# Altium footprint library Capacitors_TH.PcbLib: 79 footprints (part 3 of 5)
Each footprint in its own frame and in the unit in brackets; x right, y up, seen from the top. Pads: shape width x height; smd on the part's side, far side on the other; paste and mask are expansions set on the pad; w line width, h text height; cw(c..) or ccw(c..) is an arc to the next point about the centre after c.
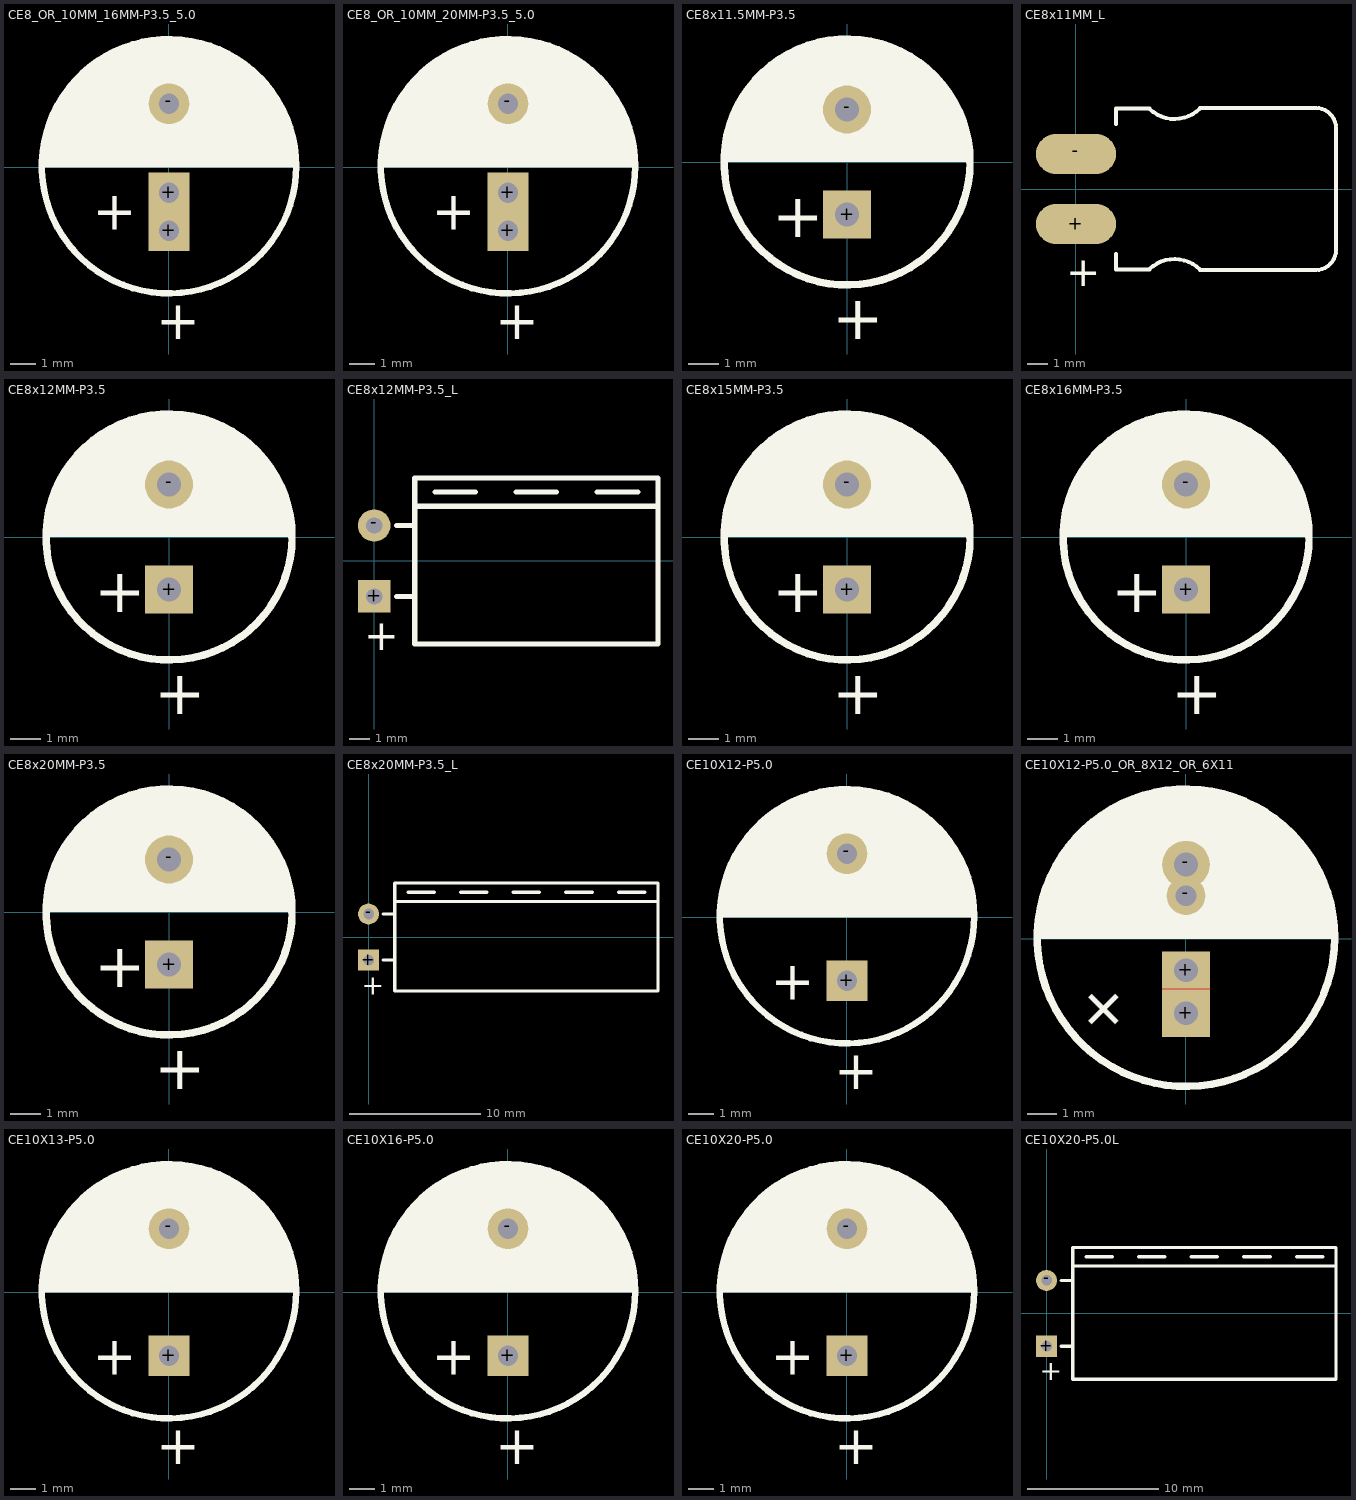
[diagram p2: the footprints below, top view; thin cyan lines are the x and y axes]

## CE8_OR_10MM_16MM-P3.5_5.0 [mm] "Radial aluminium capacitor"
height 16
pads (3):
  rect 1.6x1.6 hole 0.8: +(0,-2.5) +(0,-1)
  round 1.6 hole 0.8: -(0,2.5)
Top Overlay:
  circle w0.25: c0,0.04 r5
  region: -4.999,0 4.999,0 5,-0.001 5,0.327 4.915,0.976 4.745,1.609 4.494,2.215 4.167,2.783 3.768,3.303 3.304,3.766 2.784,4.165 2.217,4.493 1.611,4.744 0.978,4.913 0.329,4.999 -0.327,4.999 -0.977,4.914 -1.61,4.744 -2.215,4.493 -2.783,4.166 -3.303,3.767 -3.766,3.303 -4.165,2.784 -4.493,2.216 -4.744,1.611 -4.914,0.977 -4.999,0.328
  text "+" at -3,-2.45 h1.5
  text "+" at -0.5,-6.75 h1.5
3D body "Aluminum_electrolytic_capacitor_radial_D10_H16_PinD0.6_Pitch5_nominal_orange.step": height 16, standoff -3, extent -5,-5 5,5

## CE8_OR_10MM_20MM-P3.5_5.0 [mm] "Radial aluminium capacitor"
height 20
pads (3):
  rect 1.6x1.6 hole 0.8: +(0,-2.5) +(0,-1)
  round 1.6 hole 0.8: -(0,2.5)
Top Overlay:
  circle w0.25: c0,0.04 r5
  region: -4.999,0 4.999,0 5,-0.001 5,0.327 4.915,0.976 4.745,1.609 4.494,2.215 4.167,2.783 3.768,3.303 3.304,3.766 2.784,4.165 2.217,4.493 1.611,4.744 0.978,4.913 0.329,4.999 -0.327,4.999 -0.977,4.914 -1.61,4.744 -2.215,4.493 -2.783,4.166 -3.303,3.767 -3.766,3.303 -4.165,2.784 -4.493,2.216 -4.744,1.611 -4.914,0.977 -4.999,0.328
  text "+" at -3,-2.45 h1.5
  text "+" at -0.5,-6.75 h1.5
3D body "Aluminum_electrolytic_capacitor_radial_D10_H20_PinD0.6_Pitch5_nominal_brown.step": height 20, standoff -3, extent -5,-5 5,5

## CE8x11.5MM-P3.5 [mm] "Radial aluminium capacitor"
height 11.5
pads (2):
  rect 1.6x1.6 hole 0.8: +(0,-1.75)
  round 1.6 hole 0.8: -(0,1.75)
Top Overlay:
  circle w0.25: c0,0 r4.1
  region: -4.1,0.001 -4.1,0.324 -3.999,0.961 -3.799,1.575 -3.506,2.15 -3.127,2.671 -2.671,3.128 -2.149,3.507 -1.574,3.8 -0.96,3.999 -0.323,4.1 0.323,4.1 0.96,3.999 1.574,3.8 2.149,3.507 2.671,3.128 3.127,2.671 3.506,2.15 3.799,1.575 3.999,0.961 4.1,0.324 4.1,0.001
  text "+" at -0.5,-5.9 h1.5
  text "+" at -2.5,-2.5 h1.5
3D body "Cap-EL(8x11_5-3_5).STEP": height 11.6, standoff -3.2, extent -3.998,-4 3.998,4.002

## CE8x11MM_L [mm] "Radial aluminium capacitor"
height 8
pads (2):
  oval 4x2 smd: +(0,-1.75) -(0,1.75)
Top Overlay:
  lines w0.2: 2,-3.25 2,-4.027 3.678,-4.027 ; 2,3.25 2,4.027 3.678,4.027 ; 3.678,-4.004 cw(c4.927,-5.3) 6.2,-4.027 ; 3.678,4.004 ccw(c4.927,5.3) 6.212,4.039 ; 6.2,-4.05 12,-4.05 ccw(c12,-3.05) 13,-3.05 13,3.05 ccw(c12,3.05) 12,4.05 6.2,4.05
  text "+" at -0.5,-4.85 h1.5

## CE8x12MM-P3.5 [mm] "Capacitor Radial aluminium capacitor"
height 12
pads (2):
  rect 1.6x1.6 hole 0.8: +(0,-1.75)
  round 1.6 hole 0.8: -(0,1.75)
Top Overlay:
  circle w0.25: c0,0 r4.1
  region: -4.1,0.001 -4.1,0.324 -3.999,0.961 -3.799,1.575 -3.506,2.15 -3.127,2.671 -2.671,3.128 -2.149,3.507 -1.574,3.8 -0.96,3.999 -0.323,4.1 0.323,4.1 0.96,3.999 1.574,3.8 2.149,3.507 2.671,3.128 3.127,2.671 3.506,2.15 3.799,1.575 3.999,0.961 4.1,0.324 4.1,0.001
  text "+" at -0.5,-5.9 h1.5
  text "+" at -2.5,-2.5 h1.5
3D body "Cap-EL(8x12-3_5)_1.STEP": height 12.1, standoff -3.2, extent -4,-4 4,4.002

## CE8x12MM-P3.5_L [mm] "Capacitor Radial aluminium capacitor"
height 8
pads (2):
  rect 1.6x1.6 hole 0.8: +(0,-1.75)
  round 1.6 hole 0.8: -(0,1.75)
Top Overlay:
  lines w0.25: 1.1,-1.75 2,-1.75 ; 1.1,1.75 2,1.75 ; 2,2.7 14,2.7 ; 3,3.4 5,3.4 ; 7,3.4 9,3.4 ; 11,3.4 13,3.4 ; 2,-4.1 14,-4.1 14,4.1 2,4.1 2,-4.1
  text "+" at -0.5,-4.4 h1.5
3D body "pin_4x7x0.5.STEP": height 4.35, standoff -2.9, extent -0.225,-2 4.025,-1.5
3D body "pin_4x7x0.5.STEP": height 4.35, standoff -2.9, extent -0.225,1.5 4.025,2
3D body "Cap-EL(8x12-3_5)_cut_pins.STEP": height 8.1, standoff 0.1, extent 1.5,-4 14.002,4.002

## CE8x15MM-P3.5 [mm] "Radial aluminium capacitor"
height 15
pads (2):
  rect 1.6x1.6 hole 0.8: +(0,-1.75)
  round 1.6 hole 0.8: -(0,1.75)
Top Overlay:
  circle w0.25: c0,0 r4.1
  region: -4.1,0.001 -4.1,0.324 -3.999,0.961 -3.799,1.575 -3.506,2.15 -3.127,2.671 -2.671,3.128 -2.149,3.507 -1.574,3.8 -0.96,3.999 -0.323,4.1 0.323,4.1 0.96,3.999 1.574,3.8 2.149,3.507 2.671,3.128 3.127,2.671 3.506,2.15 3.799,1.575 3.999,0.961 4.1,0.324 4.1,0.001
  text "+" at -0.5,-5.9 h1.5
  text "+" at -2.5,-2.5 h1.5
3D body "Aluminum_electrolytic_capacitor_radial_D8_H15_PinD0.6_Pitch3.5_nominal_orange.step": height 15, standoff -3, extent -3.998,-4 3.998,4

## CE8x16MM-P3.5 [mm] "Radial aluminium capacitor"
height 16
pads (2):
  rect 1.6x1.6 hole 0.8: +(0,-1.75)
  round 1.6 hole 0.8: -(0,1.75)
Top Overlay:
  circle w0.25: c0,0 r4.1
  region: -4.1,0.001 -4.1,0.324 -3.999,0.961 -3.799,1.575 -3.506,2.15 -3.127,2.671 -2.671,3.128 -2.149,3.507 -1.574,3.8 -0.96,3.999 -0.323,4.1 0.323,4.1 0.96,3.999 1.574,3.8 2.149,3.507 2.671,3.128 3.127,2.671 3.506,2.15 3.799,1.575 3.999,0.961 4.1,0.324 4.1,0.001
  text "+" at -0.5,-5.9 h1.5
  text "+" at -2.5,-2.5 h1.5
3D body "Aluminum_electrolytic_capacitor_radial_D8_H16_PinD0.6_Pitch3.5_nominal_black.step": height 16, standoff -3, extent -3.998,-4 3.998,4

## CE8x20MM-P3.5 [mm] "Radial aluminium capacitor"
height 20
pads (2):
  rect 1.6x1.6 hole 0.8: +(0,-1.75)
  round 1.6 hole 0.8: -(0,1.75)
Top Overlay:
  circle w0.25: c0,0 r4.1
  region: -4.1,0.001 -4.1,0.324 -3.999,0.961 -3.799,1.575 -3.506,2.15 -3.127,2.671 -2.671,3.128 -2.149,3.507 -1.574,3.8 -0.96,3.999 -0.323,4.1 0.323,4.1 0.96,3.999 1.574,3.8 2.149,3.507 2.671,3.128 3.127,2.671 3.506,2.15 3.799,1.575 3.999,0.961 4.1,0.324 4.1,0.001
  text "+" at -0.5,-5.9 h1.5
  text "+" at -2.5,-2.5 h1.5
3D body "Aluminum_electrolytic_capacitor_radial_D8_H20_PinD0.6_Pitch3.5_nominal_orange.step": height 20, standoff -3, extent -3.998,-4 3.998,4

## CE8x20MM-P3.5_L [mm] "Capacitor Radial aluminium capacitor"
height 8
pads (2):
  rect 1.6x1.6 hole 0.8: +(0,-1.75)
  round 1.6 hole 0.8: -(0,1.75)
Top Overlay:
  lines w0.25: 1.1,-1.75 2,-1.75 ; 1.1,1.75 2,1.75 ; 2,2.7 22,2.7 ; 3,3.4 5,3.4 ; 7,3.4 9,3.4 ; 11,3.4 13,3.4 ; 15,3.4 17,3.4 ; 19,3.4 21,3.4 ; 2,-4.1 2,4.1 22,4.1 22,-4.1 2,-4.1
  text "+" at -0.5,-4.4 h1.5
3D body "Cap-EL(8x12-3_5)_cut_pins.STEP": height 8.1, standoff 0.1, extent 1.5,-4 14.002,4.002
3D body "pin_4x7x0.5.STEP": height 4.35, standoff -2.9, extent -0.225,1.5 4.025,2
3D body "pin_4x7x0.5.STEP": height 4.35, standoff -2.9, extent -0.225,-2 4.025,-1.5
3D body "Cap-EL(8x12-3_5)_cut_pins.STEP": height 8.1, standoff 0.1, extent 9.498,-4 22,4.002

## CE10X12-P5.0 [mm]
height 12
pads (2):
  rect 1.6x1.6 hole 0.8: +(0,-2.5)
  round 1.6 hole 0.8: -(0,2.5)
Top Overlay:
  circle w0.25: c0,0.04 r5
  region: -4.999,0 4.999,0 5,-0.001 5,0.327 4.915,0.976 4.745,1.609 4.494,2.215 4.167,2.783 3.768,3.303 3.304,3.766 2.784,4.165 2.217,4.493 1.611,4.744 0.978,4.913 0.329,4.999 -0.327,4.999 -0.977,4.914 -1.61,4.744 -2.215,4.493 -2.783,4.166 -3.303,3.767 -3.766,3.303 -4.165,2.784 -4.493,2.216 -4.744,1.611 -4.914,0.977 -4.999,0.328
  text "+" at -0.5,-6.75 h1.5
  text "+" at -3,-3.25 h1.5
3D body "Aluminum_electrolytic_capacitor_radial_D10_H12.5_PinD0.6_Pitch5_nominal_brown.step": height 12.6, standoff -2.9, extent -5,-5 5,5

## CE10X12-P5.0_OR_8X12_OR_6X11 [mm]
height 12
pads (4):
  rect 1.6x1.6 hole 0.8: +(0,-2.5)
  rect 1.6x1.25 hole 0.8: +(0,-1.05)
  round 1.3 hole 0.7: -(0,1.45)
  round 1.6 hole 0.8: -(0,2.5)
Top Layer:
  region: -0.8,-1.6 0.8,-1.6 0.8,-1.825 -0.8,-1.825
Bottom Layer:
  region: -0.8,-1.6 0.8,-1.6 0.8,-1.8 -0.8,-1.8
Top Overlay:
  circle w0.25: c0,0.04 r5
  region: -4.999,0 4.999,0 5,-0.001 5,0.327 4.915,0.976 4.745,1.609 4.494,2.215 4.167,2.783 3.768,3.303 3.304,3.766 2.784,4.165 2.217,4.493 1.611,4.744 0.978,4.913 0.329,4.999 -0.327,4.999 -0.977,4.914 -1.61,4.744 -2.215,4.493 -2.783,4.166 -3.303,3.767 -3.766,3.303 -4.165,2.784 -4.493,2.216 -4.744,1.611 -4.914,0.977 -4.999,0.328
  text "+" at -0.141,-5.046 h1.5
  text "+" at -2.616,-1.298 h1.5
3D body "Aluminum_electrolytic_capacitor_radial_D10_H12.5_PinD0.6_Pitch5_nominal_brown.step": height 12.6, standoff -2.9, extent -5,-5 5,5

## CE10X13-P5.0 [mm]
height 13
pads (2):
  rect 1.6x1.6 hole 0.8: +(0,-2.5)
  round 1.6 hole 0.8: -(0,2.5)
Top Overlay:
  circle w0.25: c0,0.04 r5
  region: -4.999,0 4.999,0 5,-0.001 5,0.327 4.915,0.976 4.745,1.609 4.494,2.215 4.167,2.783 3.768,3.303 3.304,3.766 2.784,4.165 2.217,4.493 1.611,4.744 0.978,4.913 0.329,4.999 -0.327,4.999 -0.977,4.914 -1.61,4.744 -2.215,4.493 -2.783,4.166 -3.303,3.767 -3.766,3.303 -4.165,2.784 -4.493,2.216 -4.744,1.611 -4.914,0.977 -4.999,0.328
  text "+" at -0.5,-6.75 h1.5
  text "+" at -3,-3.25 h1.5
3D body "Aluminum_electrolytic_capacitor_radial_D10_H12.5_PinD0.6_Pitch5_nominal_brown.step": height 13.1, standoff -2.4, extent -5,-5 5,5

## CE10X16-P5.0 [mm]
height 16
pads (2):
  rect 1.6x1.6 hole 0.8: +(0,-2.5)
  round 1.6 hole 0.8: -(0,2.5)
Top Overlay:
  circle w0.25: c0,0.04 r5
  region: -4.999,0 4.999,0 5,-0.001 5,0.327 4.915,0.976 4.745,1.609 4.494,2.215 4.167,2.783 3.768,3.303 3.304,3.766 2.784,4.165 2.217,4.493 1.611,4.744 0.978,4.913 0.329,4.999 -0.327,4.999 -0.977,4.914 -1.61,4.744 -2.215,4.493 -2.783,4.166 -3.303,3.767 -3.766,3.303 -4.165,2.784 -4.493,2.216 -4.744,1.611 -4.914,0.977 -4.999,0.328
  text "+" at -0.5,-6.75 h1.5
  text "+" at -3,-3.25 h1.5
3D body "Aluminum_electrolytic_capacitor_radial_D10_H16_PinD0.6_Pitch5_nominal_orange.step": height 16.1, standoff -2.9, extent -5,-5 5,5

## CE10X20-P5.0 [mm]
height 20
pads (2):
  rect 1.6x1.6 hole 0.8: +(0,-2.5)
  round 1.6 hole 0.8: -(0,2.5)
Top Overlay:
  circle w0.25: c0,0.04 r5
  region: -4.999,0 4.999,0 5,-0.001 5,0.327 4.915,0.976 4.745,1.609 4.494,2.215 4.167,2.783 3.768,3.303 3.304,3.766 2.784,4.165 2.217,4.493 1.611,4.744 0.978,4.913 0.329,4.999 -0.327,4.999 -0.977,4.914 -1.61,4.744 -2.215,4.493 -2.783,4.166 -3.303,3.767 -3.766,3.303 -4.165,2.784 -4.493,2.216 -4.744,1.611 -4.914,0.977 -4.999,0.328
  text "+" at -3,-3.25 h1.5
  text "+" at -0.5,-6.75 h1.5
3D body "Cap-EL(10x20-5)T.STEP": height 20.6, standoff -3.4, extent -4.998,-5 4.998,5.002

## CE10X20-P5.0L [mm]
height 10
pads (2):
  rect 1.6x1.6 hole 0.8: +(0,-2.5)
  round 1.6 hole 0.8: -(0,2.5)
Top Overlay:
  lines w0.25: 1.1,-2.5 2,-2.5 ; 1.1,2.5 2,2.5 ; 2,3.6 22,3.6 ; 3,4.3 5,4.3 ; 7,4.3 9,4.3 ; 11,4.3 13,4.3 ; 15,4.3 17,4.3 ; 19,4.3 21,4.3 ; 2,-5 2,5 22,5 22,-5 2,-5
  text "+" at -0.5,-5.1 h1.5
3D body "Aluminum_electrolytic_capacitor_radial_D10_H20_Without_Pin_brown.STEP": height 10.1, standoff 0.1, extent 2,-5 22,5
3D body "pin_4x7x0.5.STEP": height 5.35, standoff -1.9, extent -0.225,2.25 4.025,2.75
3D body "pin_4x7x0.5.STEP": height 5.35, standoff -1.9, extent -0.225,-2.75 4.025,-2.25